# Altium footprint library 7443551130.PcbLib: 1 footprints
Each footprint in its own frame and in the unit in brackets; x right, y up, seen from the top. Pads: shape width x height; smd on the part's side, far side on the other; paste and mask are expansions set on the pad; w line width, h text height; cw(c..) or ccw(c..) is an arc to the next point about the centre after c.
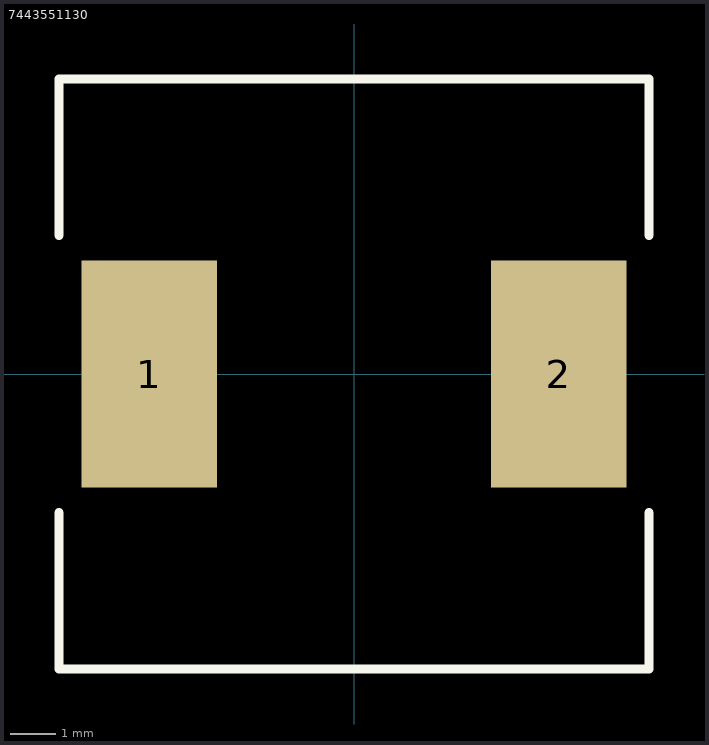
[diagram p0: the footprint, top view; thin cyan lines are the x and y axes]

## 7443551130 [mil]
pads (2):
  rect 117x196 smd: 1(-177,0) 2(177,0)
Top Overlay:
  lines w8: -255,-120 -255,-255 0,-255 255,-255 255,-120 ; -255,120 -255,255 0,255 255,255 255,120
3D body: height 185.74, standoff -3.69, extent -255.28,-251.96 256.53,251.97